# Altium schematic symbol library GENERIC_PNP_CBE.Schlib: 1 symbol
Pins are listed as number, name and electrical type; pins without a type are passive.

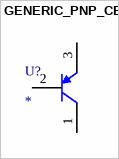
[diagram p0: symbol GENERIC_PNP_CBE]

## GENERIC_PNP_CBE
designator U?
pins: 1 C, 2 B, 3 E